# EAGLE library part ATTINY4313 (library graftel-internal-ic)
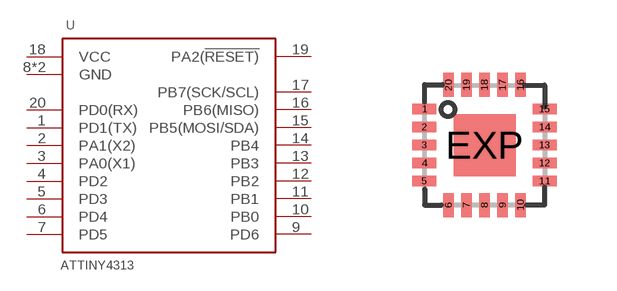
[diagram p30: symbol with the pads of VQFN-20; footprint VQFN-20]

Designator prefix U

## ATTINY4313  [VQFN-20]
1  PD1(TX)
2  PA1(X2)
3  PA0(X1)
4  PD2
5  PD3
6  PD4
7  PD5
8  GND
9  PD6
10  PB0
11  PB1
12  PB2
13  PB3
14  PB4
15  PB5(MOSI/SDA)
16  PB6(MISO)
17  PB7(SCK/SCL)
18  VCC
19  PA2(!RESET)
20  PD0(RX)
EXP  GND

## Footprint VQFN-20 (pad centres in mm)
ES Package, 20-Contact QFN with Exposed Thermal Pad Data sheet <http://www.allegromicro.com/en/Products/Part_Numbers/3906/3906.pdf>
smd 0.6 x 0.26: 1 -1.5,0.9; 2 -1.5,0.45; 3 -1.5,0; 4 -1.5,-0.45; 5 -1.5,-0.9; 11 1.5,-0.9; 12 1.5,-0.45; 13 1.5,0; 14 1.5,0.45; 15 1.5,0.9
smd 0.26 x 0.6: 6 -0.9,-1.5; 7 -0.45,-1.5; 8 0,-1.5; 9 0.45,-1.5; 10 0.9,-1.5; 16 0.9,1.5; 17 0.45,1.5; 18 0,1.5; 19 -0.45,1.5; 20 -0.9,1.5
smd 1.55 x 1.55: EXP 0,0